# Altium footprint library FX10A-168P-SV(71).PcbLib: 1 footprints
Each footprint in its own frame and in the unit in brackets; x right, y up, seen from the top. Pads: shape width x height; smd on the part's side, far side on the other; paste and mask are expansions set on the pad; w line width, h text height; cw(c..) or ccw(c..) is an arc to the next point about the centre after c.
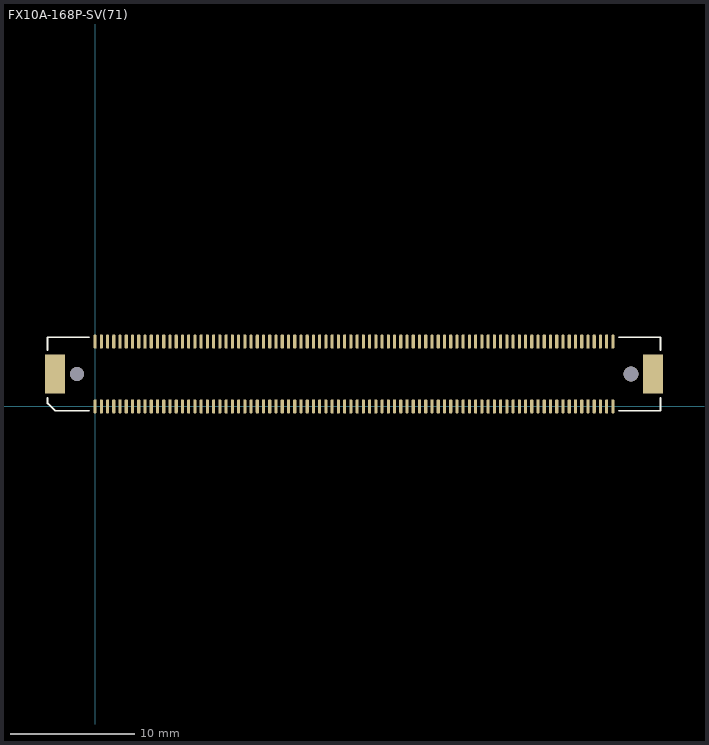
[diagram p0: the footprint, top view; thin cyan lines are the x and y axes]

## FX10A-168P-SV(71) [mm] "dual-row 168-pin connector"
pads (172):
  rrect50% 0.25x1.1 smd: 1(0,0) 2(0,5.2) 3(0.5,0) 4(0.5,5.2) 5(1,0) 6(1,5.2) 7(1.5,0) 8(1.5,5.2) 9(2,0) 10(2,5.2) 11(2.5,0) 12(2.5,5.2) 13(3,0) 14(3,5.2) 15(3.5,0) 16(3.5,5.2) 17(4,0) 18(4,5.2) 19(4.5,0) 20(4.5,5.2) 21(5,0) 22(5,5.2) 23(5.5,0) 24(5.5,5.2) 25(6,0) 26(6,5.2) 27(6.5,0) 28(6.5,5.2) 29(7,0) 30(7,5.2) 31(7.5,0) 32(7.5,5.2) 33(8,0) 34(8,5.2) 35(8.5,0) 36(8.5,5.2) 37(9,0) 38(9,5.2) 39(9.5,0) 40(9.5,5.2) 41(10,0) 42(10,5.2) 43(10.5,0) 44(10.5,5.2) 45(11,0) 46(11,5.2) 47(11.5,0) 48(11.5,5.2) 49(12,0) 50(12,5.2) 51(12.5,0) 52(12.5,5.2) 53(13,0) 54(13,5.2) 55(13.5,0) 56(13.5,5.2) 57(14,0) 58(14,5.2) 59(14.5,0) 60(14.5,5.2) 61(15,0) 62(15,5.2) 63(15.5,0) 64(15.5,5.2) 65(16,0) 66(16,5.2) 67(16.5,0) 68(16.5,5.2) 69(17,0) 70(17,5.2) 71(17.5,0) 72(17.5,5.2) 73(18,0) 74(18,5.2) 75(18.5,0) 76(18.5,5.2) 77(19,0) 78(19,5.2) 79(19.5,0) 80(19.5,5.2) 81(20,0) 82(20,5.2) 83(20.5,0) 84(20.5,5.2) 85(21,0) 86(21,5.2) 87(21.5,0) 88(21.5,5.2) 89(22,0) 90(22,5.2) 91(22.5,0) 92(22.5,5.2) 93(23,0) 94(23,5.2) 95(23.5,0) 96(23.5,5.2) 97(24,0) 98(24,5.2) 99(24.5,0) 100(24.5,5.2) 101(25,0) 102(25,5.2) 103(25.5,0) 104(25.5,5.2) 105(26,0) 106(26,5.2) 107(26.5,0) 108(26.5,5.2) 109(27,0) 110(27,5.2) 111(27.5,0) 112(27.5,5.2) 113(28,0) 114(28,5.2) 115(28.5,0) 116(28.5,5.2) 117(29,0) 118(29,5.2) 119(29.5,0) 120(29.5,5.2) 121(30,0) 122(30,5.2) 123(30.5,0) 124(30.5,5.2) 125(31,0) 126(31,5.2) 127(31.5,0) 128(31.5,5.2) 129(32,0) 130(32,5.2) 131(32.5,0) 132(32.5,5.2) 133(33,0) 134(33,5.2) 135(33.5,0) 136(33.5,5.2) 137(34,0) 138(34,5.2) 139(34.5,0) 140(34.5,5.2) 141(35,0) 142(35,5.2) 143(35.5,0) 144(35.5,5.2) 145(36,0) 146(36,5.2) 147(36.5,0) 148(36.5,5.2) 149(37,0) 150(37,5.2) 151(37.5,0) 152(37.5,5.2) 153(38,0) 154(38,5.2) 155(38.5,0) 156(38.5,5.2) 157(39,0) 158(39,5.2) 159(39.5,0) 160(39.5,5.2) 161(40,0) 162(40,5.2) 163(40.5,0) 164(40.5,5.2) 165(41,0) 166(41,5.2) 167(41.5,0) 168(41.5,5.2)
  rect 1.6x3.1 smd: ""(-3.2,2.6) ""(44.7,2.6)
  round 1.1 hole 1.1: ""(-1.45,2.6)
  round 1.2 hole 1.2: ""(42.95,2.6)
Top Overlay:
  lines w0.15: -3.8,0.7 -3.8,0.244 -3.206,-0.35 -0.47,-0.35 ; -3.8,4.5 -3.8,5.55 -0.47,5.55 ; 41.97,-0.35 45.3,-0.35 45.3,0.7 ; 41.97,5.55 45.3,5.55 45.3,4.5
3D body "FX10A-168P-SV(71).stp": height 3.51, standoff -0.59, extent -3.8,-0.35 45.3,5.55